# EAGLE library part 649020227222 (library Wurth_Elektronik_Electromechanic_Wire_to_Board_Connectors_rev15c)
WR-MPC4-4.20mm Male Dual Row Angled Header with Mounting Pegs,20 pins=>Code : Con_WTB_MPC4_2_PCB_649020227222 <http://katalog.we-online.de/media/thumbs2/eican/thb_Con_WTB_MPC4_2_PCB_6490xx227222_pf2.jpg> Details see: http://katalog.we-online.de/en/em/649_0xx_227_222 Created 2014-06-06, Karrer Zheng 2014 (C) Würth Elektronik
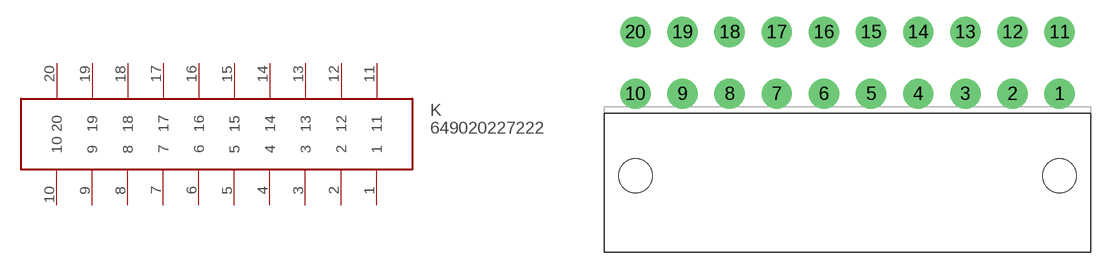
[diagram p313: symbol with the pads of 649020227222; footprint 649020227222]

Designator prefix K

## 649020227222  [649020227222]
1  1
2  2
3  3
4  4
5  5
6  6
7  7
8  8
9  9
10  10
11  11
12  12
13  13
14  14
15  15
16  16
17  17
18  18
19  19
20  20

## Footprint 649020227222 (pad centres in mm)
WR-MPC4-4.20mm Male Dual Row Angled Header with Mounting Pegs,20 pins
drill 1.8: 1 19.195,-2.75; 2 14.995,-2.75; 3 10.795,-2.75; 4 6.595,-2.75; 5 2.395,-2.75; 6 -1.805,-2.75; 7 -6.005,-2.75; 8 -10.205,-2.75; 9 -14.405,-2.75; 10 -18.605,-2.75; 11 19.195,2.75; 12 14.995,2.75; 13 10.795,2.75; 14 6.595,2.75; 15 2.395,2.75; 16 -1.805,2.75; 17 -6.005,2.75; 18 -10.205,2.75; 19 -14.405,2.75; 20 -18.605,2.75
hole 3 at -18.605,-10.05
hole 3 at 19.195,-10.05